# Altium footprint library RFID_MODULE_S01.PcbLib: 1 footprints
Each footprint in its own frame and in the unit in brackets; x right, y up, seen from the top. Pads: shape width x height; smd on the part's side, far side on the other; paste and mask are expansions set on the pad; w line width, h text height; cw(c..) or ccw(c..) is an arc to the next point about the centre after c.
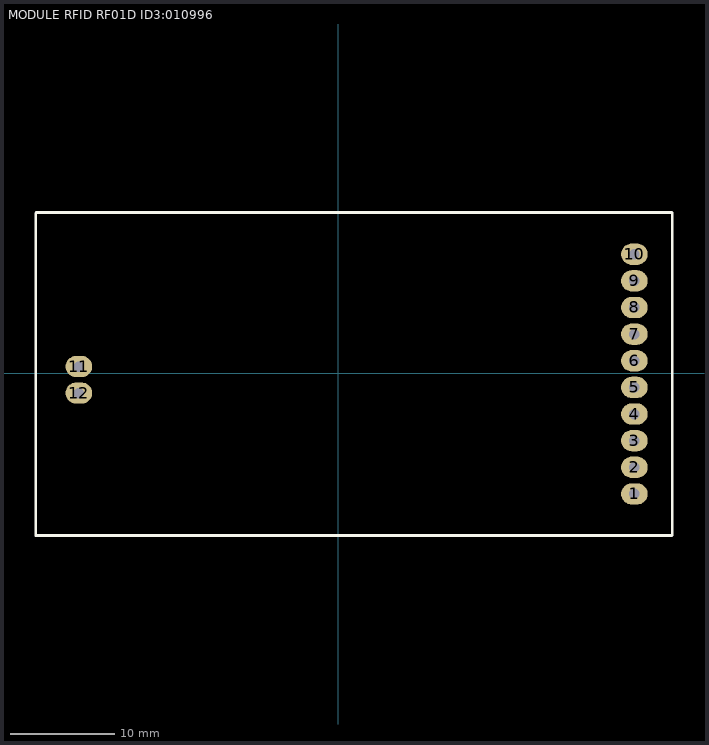
[diagram p0: the footprint, top view; thin cyan lines are the x and y axes]

## MODULE RFID RF01D ID3:010996 [mil]
pads (12):
  oval 100x80 hole 39.37: 1(1111.55,-453.6) 2(1111.55,-353.57) 3(1111.55,-253.53) 4(1111.55,-153.5) 5(1111.55,-53.47) 6(1111.55,46.57) 7(1111.55,146.6) 8(1111.55,246.63) 9(1111.55,346.67) 10(1111.55,446.7) 11(-974.75,24.85) 12(-974.75,-74.85)
Top Overlay:
  lines w10: -1136.45,-609.5 -1136.45,601.05 -1134.3,603.2 1252.4,603.2 1253.35,602.25 1253.35,-608.2 1252.05,-609.5 -1136.45,-609.5
Mechanical 2:
  lines w0.5: -1136.45,-609.5 1253.31,-609.5 1253.31,603.1 -1136.45,603.1 -1136.45,-609.5 ; -990.79,-74.07 cw(c-974.79,-74.07) -990.77,-73.24 cw(c-974.95,-74.06) -990.67,-72.14 cw(c-975.04,-74.07) -975.84,-58.34 cw(c-975.04,-74.32) -975.04,-58.32 cw(c-975.04,-74.32) -974.21,-58.34 cw(c-975.03,-74.16) -973.11,-58.44 cw(c-975.04,-74.07) -959.31,-73.26 cw(c-975.3,-74.07) -959.29,-74.07 cw(c-975.29,-74.07) -959.31,-74.9 cw(c-975.13,-74.08) -959.41,-75.99 cw(c-975.04,-74.06) -974.24,-89.79 cw(c-975.04,-73.81) -975.04,-89.81 cw(c-975.04,-73.81) -975.87,-89.79 cw(c-975.05,-73.98) -976.97,-89.7 cw(c-975.04,-74.06) -990.77,-74.87 cw(c-974.78,-74.07) -990.79,-74.07 ; -990.79,25.93 cw(c-974.79,25.93) -990.77,26.76 cw(c-974.95,25.94) -990.67,27.86 cw(c-975.04,25.93) -975.84,41.66 cw(c-975.04,25.68) -975.04,41.68 cw(c-975.04,25.68) -974.21,41.66 cw(c-975.03,25.84) -973.11,41.56 cw(c-975.04,25.93) -959.31,26.74 cw(c-975.3,25.93) -959.29,25.93 cw(c-975.29,25.93) -959.31,25.1 cw(c-975.13,25.92) -959.41,24.01 cw(c-975.04,25.94) -974.24,10.21 cw(c-975.04,26.19) -975.04,10.19 cw(c-975.04,26.19) -975.87,10.21 cw(c-975.05,26.02) -976.97,10.3 cw(c-975.04,25.94) -990.77,25.13 cw(c-974.78,25.93) -990.79,25.93 ; 1095.85,-454 ccw(c1111.58,-453.2) 1109.65,-468.83 ccw(c1111.56,-453.11) 1110.74,-468.93 ccw(c1111.57,-452.95) 1111.57,-468.95 ccw(c1111.57,-452.94) 1112.38,-468.93 ccw(c1111.57,-453.2) 1127.2,-455.13 ccw(c1111.48,-453.21) 1127.3,-454.03 ccw(c1111.32,-453.2) 1127.32,-453.2 ccw(c1111.32,-453.2) 1127.3,-452.4 ccw(c1111.57,-453.2) 1113.5,-437.57 ccw(c1111.58,-453.29) 1112.4,-437.47 ccw(c1111.57,-453.45) 1111.57,-437.45 ccw(c1111.57,-453.46) 1110.77,-437.47 ccw(c1111.58,-453.21) 1095.94,-451.27 ccw(c1111.66,-453.19) 1095.85,-452.37 ccw(c1111.83,-453.2) 1095.83,-453.2 ccw(c1111.83,-453.2) 1095.85,-454
3D body "RF MODULE_VER2_02_05_08.stp": height 493.26, standoff -329.53, extent -1138.98,-609.65 1250.78,602.95
3D body: height 10, standoff 0, extent 5,0 5,0
3D body: height 10, standoff 0, extent 5,5 5,5
3D body: height 10, standoff 0, extent 5,0 5,0
3D body: height 10, standoff 0, extent 5,0 5,0
3D body: height 10, standoff 0, extent -5,10 -5,10
3D body: height 10, standoff 0, extent 35,75 35,75